# Altium footprint library PowerModule.PcbLib: 48 footprints (part 1 of 3)
Each footprint in its own frame and in the unit in brackets; x right, y up, seen from the top. Pads: shape width x height; smd on the part's side, far side on the other; paste and mask are expansions set on the pad; w line width, h text height; cw(c..) or ccw(c..) is an arc to the next point about the centre after c.
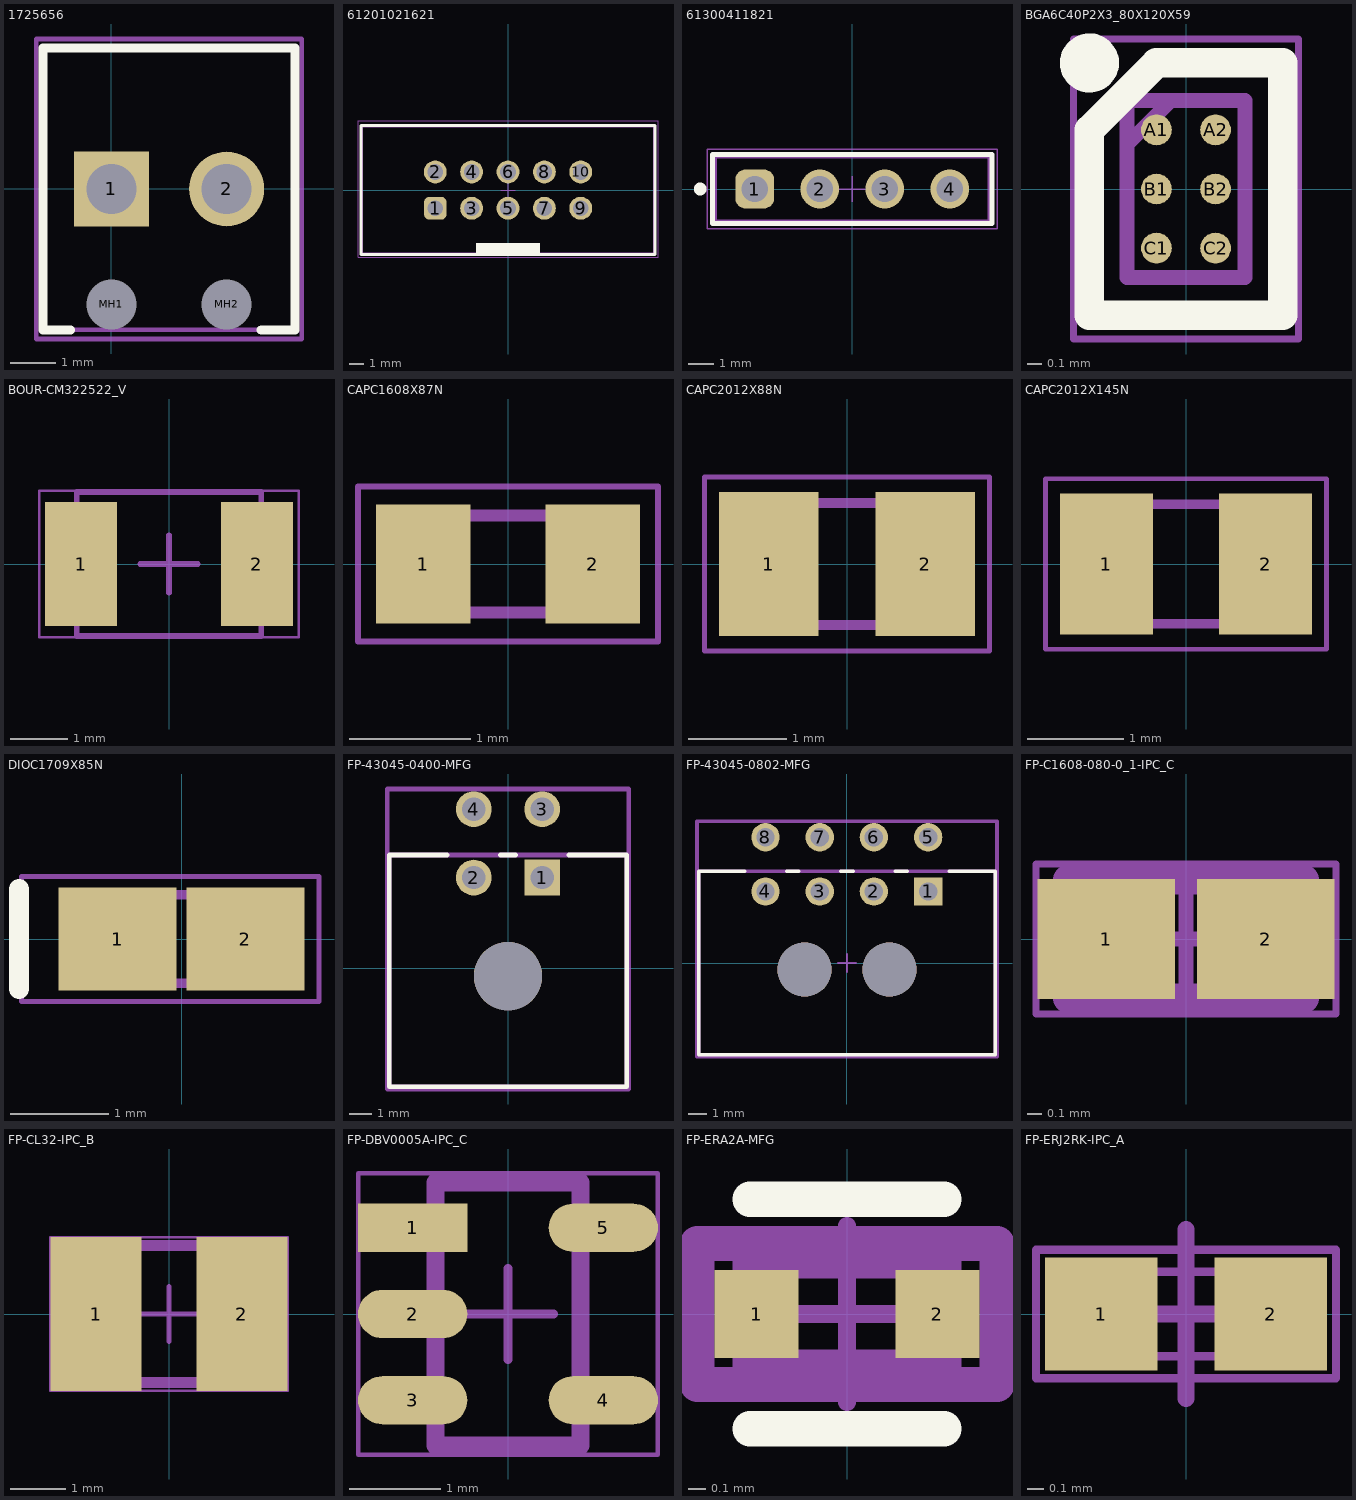
[diagram p0: the footprints below, top view; thin cyan lines are the x and y axes]

## 1725656 [mm]
height 2.95
pads (4):
  rect 1.65x1.65 hole 1.1: 1(0,0)
  round 1.65 hole 1.1: 2(2.54,0)
  round 0.55 hole 1.1 unplated: MH1(0,-2.54) MH2(2.54,-2.54)
Top Overlay:
  lines w0.2: -0.9,-3.1 -1.5,-3.1 -1.5,3.1 4.04,3.1 4.04,-3.1 3.3,-3.1
Top 3D Body:
  lines w0.1: -1.5,-3.1 -1.5,3.1 4.04,3.1 4.04,-3.1 -1.5,-3.1
Top Courtyard:
  lines w0.1: -1.651,-3.302 -1.651,3.302 4.191,3.302 4.191,-3.302 -1.651,-3.302
3D body "1725656.stp": height 9, standoff -3, extent -1.5,-3.1 4.04,3.1

## 61201021621 [mm] "10 pins, straight, gold plating"
height 9.1
pads (10):
  rrect50% 1.6x1.6 hole 1.1: 1(-5.08,-1.27)
  round 1.6 hole 1.1: 2(-5.08,1.27) 3(-2.54,-1.27) 4(-2.54,1.27) 5(0,-1.27) 6(0,1.27) 7(2.54,-1.27) 8(2.54,1.27) 9(5.08,-1.27) 10(5.08,1.27)
Top Overlay:
  rectangle: -2.25,-4.5 2.25,-3.7
  lines w0.2: -10.28,-4.5 -10.28,4.5 10.28,4.5 10.28,-4.5 -10.28,-4.5
Top Designator:
  text ".Designator" at -7.498,-0.5 h1.5
Top Component Outline:
  rectangle: -2.25,-4.425 2.25,-3.7
  lines w0.1: -10.18,-4.425 10.18,-4.425 10.18,4.425 -10.18,4.425 -10.18,-4.425
Top 3D Body:
  rectangle: -2.25,-4.425 2.25,-3.7
  lines w0.1: -10.18,-4.425 -10.18,4.425 10.18,4.425 10.18,-4.425 -10.18,-4.425
Top Courtyard:
  lines w0.05: -0.5,0 0.5,0 ; 0,-0.5 0,0.5 ; -10.48,-4.7 -10.48,4.85 10.48,4.85 10.48,-4.7 -10.48,-4.7
3D body "61201021621.stp": height 9.13, standoff -2.98, extent -10.18,-4.425 10.18,4.75

## 61300411821 [mm] "Socket Header, Pitch 2.54 mm, THT, Vertical, single row, 4p"
height 8.5
pads (4):
  rrect50% 1.52x1.52 hole 1.02: 1(-3.81,0)
  round 1.52 hole 1.02: 2(-1.27,0) 3(1.27,0) 4(3.81,0)
Top Overlay:
  circle w0.25: c-5.94,0 r0.125
  lines w0.2: -5.455,-1.35 5.455,-1.35 5.455,1.35 -5.455,1.35 -5.455,-1.35
Top Designator:
  text ".Designator" at -7.498,-0.5 h1.5
Top Component Outline:
  lines w0.1: -5.33,-1.25 5.33,-1.25 5.33,1.25 -5.33,1.25 -5.33,-1.25
Top Courtyard:
  lines w0.05: -5.655,-1.55 5.655,-1.55 5.655,1.55 -5.655,1.55 -5.655,-1.55
Top Component Center:
  lines w0.05: -0.5,0 0.5,0 ; 0,-0.5 0,0.5
3D body "61300411821.stp": height 8.55, standoff -3.05, extent -5.33,-1.25 5.33,1.25

## BGA6C40P2X3_80X120X59 [mm]
height 2.95
pads (6):
  round 0.208 smd: A1(-0.2,0.4) A2(0.2,0.4) B1(-0.2,0) B2(0.2,0) C1(-0.2,-0.4) C2(0.2,-0.4)
Top Overlay:
  circle w0.2: c-0.654,0.854 r0.1
  lines w0.2: -0.654,-0.854 0.654,-0.854 0.654,0.854 -0.2,0.854 -0.654,0.4 -0.654,-0.854
Top 3D Body:
  lines w0.1: -0.4,0.3 -0.1,0.6 ; -0.4,-0.6 0.4,-0.6 0.4,0.6 -0.4,0.6 -0.4,-0.6
Top Courtyard:
  lines w0.05: -0.762,-1.016 0.762,-1.016 0.762,1.016 -0.762,1.016 -0.762,-1.016
3D body "TCK402G.stp": height 0.55, standoff 0, extent -0.4,-0.6 0.4,0.6

## BOUR-CM322522_V [mm] "Inductor, 2-Leads, Body 3.2x2.5mm, Pitch 3.05mm"
height 2.4
pads (2):
  rect 1.25x2.15 smd: 1(-1.525,0) 2(1.525,0)
Top 3D Body:
  lines w0.1: -1.6,-1.25 1.6,-1.25 1.6,1.25 -1.6,1.25 -1.6,-1.25
Top Courtyard:
  lines w0.05: -2.25,-1.27 -2.25,1.27 2.25,1.27 2.25,-1.27 -2.25,-1.27
  lines w0.1: -0.5,0 0.5,0 ; 0,-0.5 0,0.5
3D body "INDM2925X24L.step": height 2.4, standoff 0, extent -1.77,-1.35 1.77,1.35

## CAPC1608X87N [mm]
height 2.95
pads (2):
  rect 0.78x0.98 smd: 1(-0.7,0) 2(0.7,0)
Top 3D Body:
  lines w0.1: -0.8,-0.4 -0.8,0.4 0.8,0.4 0.8,-0.4 -0.8,-0.4
Top Courtyard:
  lines w0.05: -1.24,-0.64 -1.24,0.64 1.24,0.64 1.24,-0.64 -1.24,-0.64
3D body "C0603C103J5RAC.stp": height 0.87, standoff 0, extent -0.87,-0.48 0.88,0.47

## CAPC2012X88N [mm]
height 2.95
pads (2):
  rect 1.02x1.47 smd: 1(-0.8,0) 2(0.8,0)
Top 3D Body:
  lines w0.1: -1,-0.625 -1,0.625 1,0.625 1,-0.625 -1,-0.625
Top Courtyard:
  lines w0.05: -1.46,-0.89 -1.46,0.89 1.46,0.89 1.46,-0.89 -1.46,-0.89
3D body "C0805C104M5RAC.stp": height 0.88, standoff 0, extent -1.1,-0.73 1.1,0.72

## CAPC2012X145N [mm]
height 2.95
pads (2):
  rect 0.97x1.47 smd: 1(-0.83,0) 2(0.83,0)
Top 3D Body:
  lines w0.1: -1,-0.625 -1,0.625 1,0.625 1,-0.625 -1,-0.625
Top Courtyard:
  lines w0.05: -1.465,-0.89 -1.465,0.89 1.465,0.89 1.465,-0.89 -1.465,-0.89
3D body "GRM21BC71E475KE11L.stp": height 1.45, standoff 0, extent -1,-0.625 1,0.625

## DIOC1709X85N [mm]
height 2.95
pads (2):
  rect 1.2x1.05 smd: 1(-0.65,0) 2(0.65,0)
Top Overlay:
  lines w0.2: -1.651,-0.508 -1.651,0.508
Top 3D Body:
  lines w0.1: -0.85,-0.075 -0.325,0.45 ; -0.85,-0.45 -0.85,0.45 0.85,0.45 0.85,-0.45 -0.85,-0.45
Top Courtyard:
  lines w0.05: -1.625,-0.635 -1.625,0.635 1.397,0.635 1.397,-0.635 -1.625,-0.635
3D body "CDBU0245.stp": height 0.85, standoff 0, extent -0.85,-0.45 0.85,0.45

## FP-43045-0400-MFG [mm]
height 2.95
pads (5):
  rect 1.57x1.57 hole 1.02 paste-1000 mask+0: 1(1.5,3.965)
  round 1.57 hole 1.02 paste-1000 mask+0: 2(-1.5,3.965) 3(1.5,6.965) 4(-1.5,6.965)
  round 3 hole 3 unplated paste-1000 mask+0: ""(0,-0.355)
Top Overlay:
  lines w0.2: -2.66,4.955 -5.2,4.955 -5.2,-5.205 5.2,-5.205 5.2,4.955 2.66,4.955 ; -0.34,4.955 0.34,4.955
Top Assembly:
  lines w0.2: -5.3,-5.305 5.3,-5.305 5.3,7.85 -5.3,7.85 -5.3,-5.305
  text ".Designator" at 0,1.272 h1
Top 3D Body:
  lines w0.2: -5.2,-5.205 5.2,-5.205 5.2,4.955 -5.2,4.955 -5.2,-5.205
Top Courtyard:
  lines w0.2: -5.3,-5.305 5.3,-5.305 5.3,7.85 -5.3,7.85 -5.3,-5.305
Top Component Center:
  lines w0.1: -0.5,0 0.5,0 ; 0,-0.5 0,0.5
3D body "Conn_Molex_43045-0400_eec.STEP": height 0.25, standoff 0, extent -5.3,-5.305 5.3,7.85

## FP-43045-0802-MFG [mm]
pads (10):
  rect 1.57x1.57 hole 1.02 paste-1000 mask+0: 1(4.49,3.965)
  round 1.57 hole 1.02 paste-1000 mask+0: 2(1.49,3.965) 3(-1.51,3.965) 4(-4.51,3.965) 5(4.49,6.965) 6(1.49,6.965) 7(-1.51,6.965) 8(-4.51,6.965)
  round 3 hole 3 unplated paste-1000 mask+0: ""(-2.35,-0.355) ""(2.35,-0.355)
Top Overlay:
  lines w0.2: -5.66,5.08 -8.2,5.08 -8.2,-5.08 8.2,-5.08 8.2,5.08 5.66,5.08 ; -3.34,5.08 -2.66,5.08 ; -0.34,5.08 0.34,5.08 ; 2.66,5.08 3.34,5.08
Top Assembly:
  lines w0.2: -8.3,-5.18 8.3,-5.18 8.3,7.85 -8.3,7.85 -8.3,-5.18
  text ".Designator" at 0,1.523 h1
Top 3D Body:
  lines w0.2: -8.2,-5.08 8.2,-5.08 8.2,5.08 -8.2,5.08 -8.2,-5.08
Top Courtyard:
  lines w0.2: -8.3,-5.18 8.3,-5.18 8.3,7.85 -8.3,7.85 -8.3,-5.18
Top Component Center:
  lines w0.1: -0.5,0 0.5,0 ; 0,-0.5 0,0.5
3D body "Conn_Molex_43045-0802_eec.STEP": height 0.25, standoff 0, extent -8.3,-5.18 8.3,7.85

## FP-C1608-080-0_1-IPC_C [mm]
height 2.95
pads (2):
  rect 0.931x0.812 smd paste+0 mask+0: 1(-0.541,0) 2(0.541,0)
Top Assembly:
  lines w0.05: -1.016,-0.508 -1.016,0.508 1.016,0.508 1.016,-0.508 -1.016,-0.508
  text ".Designator" at 0,0.188 h1
Top 3D Body:
  lines w0.2: -0.8,-0.4 -0.8,0.4 0.8,0.4 0.8,-0.4 -0.8,-0.4
Top Courtyard:
  lines w0.05: -1.016,-0.508 -1.016,0.508 1.016,0.508 1.016,-0.508 -1.016,-0.508
Top Component Center:
  lines w0.1: -0.5,0 0.5,0 ; 0,-0.381 0,0.381
3D body "Cap_TDK_C1608X6S0G106K080AB_eec.STEP": height 0.25, standoff 0, extent -1.106,-0.55 1.106,0.55

## FP-CL32-IPC_B [mm]
height 2.95
pads (2):
  rect 1.653x2.804 smd paste+0 mask+0: 1(-1.325,0) 2(1.325,0)
Top Assembly:
  lines w0.05: -2.159,-1.397 -2.159,1.397 2.159,1.397 2.159,-1.397 -2.159,-1.397
  text ".Designator" at 0,0.188 h1
Top 3D Body:
  lines w0.2: -1.6,-1.25 -1.6,1.25 1.6,1.25 1.6,-1.25 -1.6,-1.25
Top Courtyard:
  lines w0.05: -2.159,-1.397 -2.159,1.397 2.159,1.397 2.159,-1.397 -2.159,-1.397
Top Component Center:
  lines w0.1: -0.5,0 0.5,0 ; 0,-0.5 0,0.5
3D body "Cap_Samsung_Electro-Mechanics_America_Inc_CL32C472JBFNNNE_eec.STEP": height 0.25, standoff 0, extent -2.402,-1.652 2.402,1.652

## FP-DBV0005A-IPC_C [mm]
height 2.95
pads (5):
  rect 1.205x0.532 smd paste+0 mask+0: 1(-1.05,0.95)
  rrect100% 1.205x0.532 smd paste+0 mask+0: 2(-1.05,0) 3(-1.05,-0.95) 4(1.05,-0.95) 5(1.05,0.95)
Top Assembly:
  lines w0.05: -1.651,-1.55 -1.651,1.55 1.651,1.55 1.651,-1.55 -1.651,-1.55
  text ".Designator" at 0,0.188 h1
Top 3D Body:
  lines w0.2: -0.8,-1.45 -0.8,1.45 0.8,1.45 0.8,-1.45 -0.8,-1.45
Top Courtyard:
  lines w0.05: -1.651,-1.55 -1.651,1.55 1.651,1.55 1.651,-1.55 -1.651,-1.55
Top Component Center:
  lines w0.1: -0.5,0 0.5,0 ; 0,-0.5 0,0.5
3D body "IC_Texas_Instruments_SN74AHC1G00DBVR_eec.STEP": height 0.25, standoff 0, extent -1.753,-1.55 1.753,1.55

## FP-ERA2A-MFG [mm]
pads (2):
  rect 0.475x0.5 smd paste+0 mask+0: 1(-0.512,0) 2(0.512,0)
Top Overlay:
  lines w0.2: -0.55,-0.65 0.55,-0.65 ; -0.55,0.65 0.55,0.65
Top Assembly:
  lines w0.2: -0.85,-0.4 -0.85,0.4 0.85,0.4 0.85,-0.4 -0.85,-0.4
  text ".Designator" at 0,0.188 h1
Top 3D Body:
  lines w0.2: -0.55,-0.3 -0.55,0.3 0.55,0.3 0.55,-0.3 -0.55,-0.3
Top Courtyard:
  lines w0.2: -0.85,-0.4 -0.85,0.4 0.85,0.4 0.85,-0.4 -0.85,-0.4
Top Component Center:
  lines w0.1: -0.5,0 0.5,0 ; 0,-0.5 0,0.5
3D body "Res_Panasonic_ERA-2AEB103X_eec.STEP": height 0.25, standoff 0, extent -0.85,-0.4 0.85,0.4

## FP-ERJ2RK-IPC_A [mm]
height 2.95
pads (2):
  rect 0.668x0.672 smd paste+0 mask+0: 1(-0.502,0) 2(0.502,0)
Top Assembly:
  lines w0.05: -0.889,-0.381 -0.889,0.381 0.889,0.381 0.889,-0.381 -0.889,-0.381
  text ".Designator" at 0,0.188 h1
Top 3D Body:
  lines w0.05: -0.5,-0.25 -0.5,0.25 0.5,0.25 0.5,-0.25 -0.5,-0.25
Top Courtyard:
  lines w0.05: -0.889,-0.381 -0.889,0.381 0.889,0.381 0.889,-0.381 -0.889,-0.381
Top Component Center:
  lines w0.1: -0.5,0 0.5,0 ; 0,-0.5 0,0.5
3D body "Res_Panasonic_ERJ-2RKF10R0X_eec.STEP": height 0.25, standoff 0, extent -1.036,-0.536 1.036,0.536